# Altium footprint library con-wago255.PCBLIB: 101 footprints (part 4 of 7)
Each footprint in its own frame and in the unit in brackets; x right, y up, seen from the top. Pads: shape width x height; smd on the part's side, far side on the other; paste and mask are expansions set on the pad; w line width, h text height; cw(c..) or ccw(c..) is an arc to the next point about the centre after c.
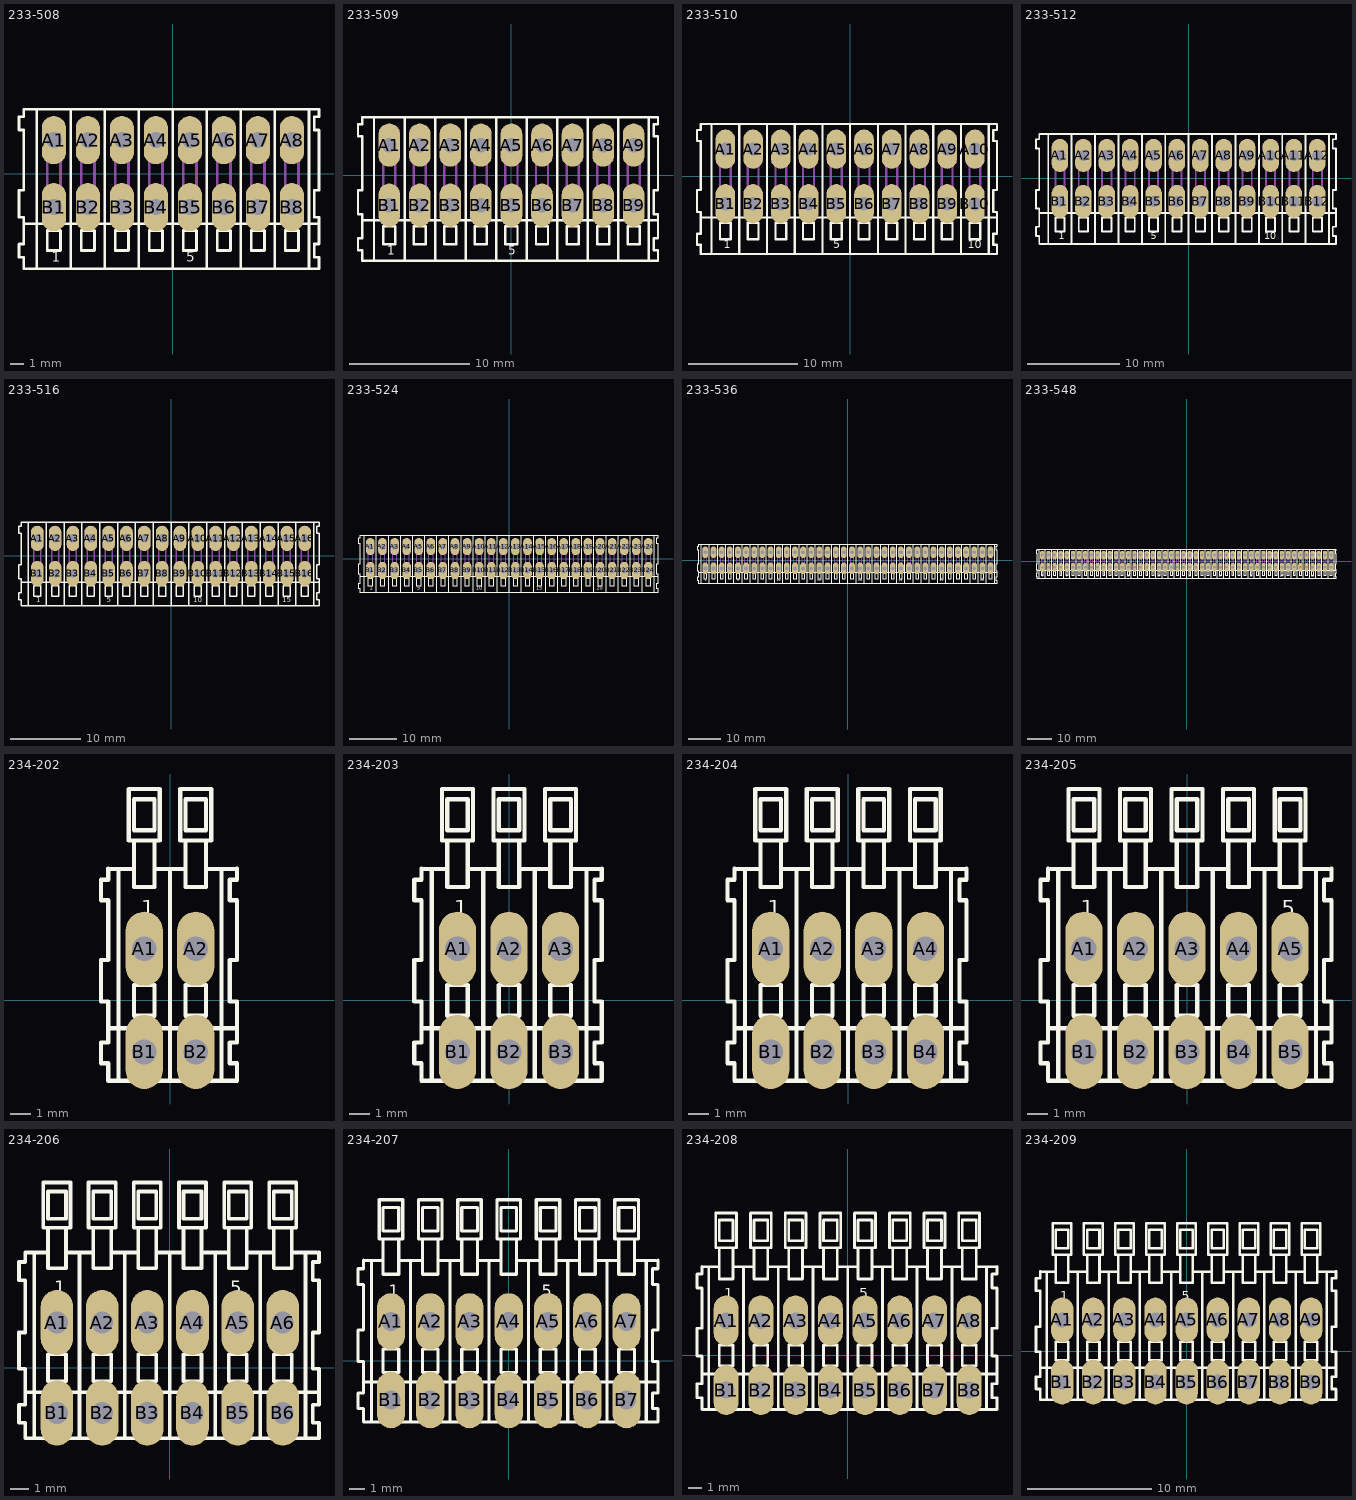
[diagram p3: the footprints below, top view; thin cyan lines are the x and y axes]

## 233-508 [mil]
pads (16):
  oval 70.86x141.72 hole 47.24: A1(-350,98.43) A2(-250,98.43) A3(-150,98.43) A4(-50,98.43) A5(50,98.43) A6(150,98.43) A7(250,98.43) A8(350,98.43) B1(-350,-98.43) B2(-250,-98.43) B3(-150,-98.43) B4(-50,-98.43) B5(50,-98.43) B6(150,-98.43) B7(250,-98.43) B8(350,-98.43)
Top Overlay:
  lines w8: -438.58,-147.64 429.72,-147.64 ; -400,-275 -400,185 ; -300,-275 -300,185 ; -200,-275 -200,185 ; -100,-275 -100,185 ; 0,-275 0,185 ; 100,-275 100,185 ; 200,-275 200,185 ; 300,-275 300,185 ; 400,-275 400,185 ; 429.72,-147.64 429.72,-206.69 415.94,-206.69 415.94,-246.06 429.72,-246.06 429.72,-279.53 -438.58,-279.53 -438.58,-246.06 -452.36,-246.06 -452.36,-206.69 -438.58,-206.69 -438.58,-127.95 -452.36,-127.95 -452.36,-49.21 -438.58,-49.21 -438.58,127.95 -452.36,127.95 -452.36,167.32 -438.58,167.32 -438.58,188.98 429.72,188.98 429.72,167.32 415.94,167.32 415.94,127.95 429.72,127.95 429.72,-49.21 415.94,-49.21 415.94,-127.95 429.72,-127.95 429.72,-147.64 ; -369.69,-226.38 -369.69,-167.32 -330.32,-167.32 -330.32,-226.38 -369.69,-226.38 ; -269.69,-226.38 -269.69,-167.32 -230.32,-167.32 -230.32,-226.38 -269.69,-226.38 ; -169.69,-226.38 -169.69,-167.32 -130.32,-167.32 -130.32,-226.38 -169.69,-226.38 ; -69.69,-226.38 -69.69,-167.32 -30.32,-167.32 -30.32,-226.38 -69.69,-226.38 ; 30.32,-226.38 30.32,-167.32 69.69,-167.32 69.69,-226.38 30.32,-226.38 ; 130.32,-226.38 130.32,-167.32 169.69,-167.32 169.69,-226.38 130.32,-226.38 ; 230.32,-226.38 230.32,-167.32 269.69,-167.32 269.69,-226.38 230.32,-226.38 ; 330.32,-226.38 330.32,-167.32 369.69,-167.32 369.69,-226.38 330.32,-226.38
  text "1" at -355.91,-269.69 h49.6
  text "5" at 39.09,-269.69 h49.6
Mechanical 16:
  lines w8: -369.69,49.21 -379.53,49.21 -379.53,147.64 -320.47,147.64 -320.47,49.21 -330.32,49.21 ; -369.69,49.21 -330.32,49.21 ; -369.69,49.21 -369.69,-39.37 -330.32,-39.37 -330.32,49.21 ; -269.69,49.21 -279.53,49.21 -279.53,147.64 -220.47,147.64 -220.47,49.21 -230.32,49.21 ; -269.69,49.21 -230.32,49.21 ; -269.69,49.21 -269.69,-39.37 -230.32,-39.37 -230.32,49.21 ; -169.69,49.21 -179.53,49.21 -179.53,147.64 -120.47,147.64 -120.47,49.21 -130.32,49.21 ; -169.69,49.21 -130.32,49.21 ; -169.69,49.21 -169.69,-39.37 -130.32,-39.37 -130.32,49.21 ; -69.69,49.21 -79.53,49.21 -79.53,147.64 -20.47,147.64 -20.47,49.21 -30.32,49.21 ; -69.69,49.21 -30.32,49.21 ; -69.69,49.21 -69.69,-39.37 -30.32,-39.37 -30.32,49.21 ; 30.32,49.21 20.47,49.21 20.47,147.64 79.53,147.64 79.53,49.21 69.69,49.21 ; 30.32,49.21 69.69,49.21 ; 30.32,49.21 30.32,-39.37 69.69,-39.37 69.69,49.21 ; 130.32,49.21 120.47,49.21 120.47,147.64 179.53,147.64 179.53,49.21 169.69,49.21 ; 130.32,49.21 169.69,49.21 ; 130.32,49.21 130.32,-39.37 169.69,-39.37 169.69,49.21 ; 230.32,49.21 220.47,49.21 220.47,147.64 279.53,147.64 279.53,49.21 269.69,49.21 ; 230.32,49.21 269.69,49.21 ; 230.32,49.21 230.32,-39.37 269.69,-39.37 269.69,49.21 ; 330.32,49.21 320.47,49.21 320.47,147.64 379.53,147.64 379.53,49.21 369.69,49.21 ; 330.32,49.21 369.69,49.21 ; 330.32,49.21 330.32,-39.37 369.69,-39.37 369.69,49.21 ; -369.69,68.9 -369.69,127.95 -330.32,127.95 -330.32,68.9 -369.69,68.9 ; -269.69,68.9 -269.69,127.95 -230.32,127.95 -230.32,68.9 -269.69,68.9 ; -169.69,68.9 -169.69,127.95 -130.32,127.95 -130.32,68.9 -169.69,68.9 ; -69.69,68.9 -69.69,127.95 -30.32,127.95 -30.32,68.9 -69.69,68.9 ; 30.32,68.9 30.32,127.95 69.69,127.95 69.69,68.9 30.32,68.9 ; 130.32,68.9 130.32,127.95 169.69,127.95 169.69,68.9 130.32,68.9 ; 230.32,68.9 230.32,127.95 269.69,127.95 269.69,68.9 230.32,68.9 ; 330.32,68.9 330.32,127.95 369.69,127.95 369.69,68.9 330.32,68.9

## 233-509 [mil]
pads (18):
  oval 70.86x141.72 hole 47.24: A1(-400,98.43) A2(-300,98.43) A3(-200,98.43) A4(-100,98.43) A5(0,98.43) A6(100,98.43) A7(200,98.43) A8(300,98.43) A9(400,98.43) B1(-400,-98.43) B2(-300,-98.43) B3(-200,-98.43) B4(-100,-98.43) B5(0,-98.43) B6(100,-98.43) B7(200,-98.43) B8(300,-98.43) B9(400,-98.43)
Top Overlay:
  lines w8: -488.58,-147.64 479.72,-147.64 ; -450,-275 -450,185 ; -350,-275 -350,185 ; -250,-275 -250,185 ; -150,-275 -150,185 ; -50,-275 -50,185 ; 50,-275 50,185 ; 150,-275 150,185 ; 250,-275 250,185 ; 350,-275 350,185 ; 450,-275 450,185 ; 479.72,-147.64 479.72,-206.69 465.94,-206.69 465.94,-246.06 479.72,-246.06 479.72,-279.53 -488.58,-279.53 -488.58,-246.06 -502.36,-246.06 -502.36,-206.69 -488.58,-206.69 -488.58,-127.95 -502.36,-127.95 -502.36,-49.21 -488.58,-49.21 -488.58,127.95 -502.36,127.95 -502.36,167.32 -488.58,167.32 -488.58,188.98 479.72,188.98 479.72,167.32 465.94,167.32 465.94,127.95 479.72,127.95 479.72,-49.21 465.94,-49.21 465.94,-127.95 479.72,-127.95 479.72,-147.64 ; -419.69,-226.38 -419.69,-167.32 -380.32,-167.32 -380.32,-226.38 -419.69,-226.38 ; -319.69,-226.38 -319.69,-167.32 -280.32,-167.32 -280.32,-226.38 -319.69,-226.38 ; -219.69,-226.38 -219.69,-167.32 -180.32,-167.32 -180.32,-226.38 -219.69,-226.38 ; -119.69,-226.38 -119.69,-167.32 -80.32,-167.32 -80.32,-226.38 -119.69,-226.38 ; -19.69,-226.38 -19.69,-167.32 19.69,-167.32 19.69,-226.38 -19.69,-226.38 ; 80.32,-226.38 80.32,-167.32 119.69,-167.32 119.69,-226.38 80.32,-226.38 ; 180.32,-226.38 180.32,-167.32 219.69,-167.32 219.69,-226.38 180.32,-226.38 ; 280.32,-226.38 280.32,-167.32 319.69,-167.32 319.69,-226.38 280.32,-226.38 ; 380.32,-226.38 380.32,-167.32 419.69,-167.32 419.69,-226.38 380.32,-226.38
  text "1" at -405.91,-269.69 h49.6
  text "5" at -10.91,-269.69 h49.6
Mechanical 16:
  lines w8: -419.69,49.21 -429.53,49.21 -429.53,147.64 -370.47,147.64 -370.47,49.21 -380.32,49.21 ; -419.69,49.21 -380.32,49.21 ; -419.69,49.21 -419.69,-39.37 -380.32,-39.37 -380.32,49.21 ; -319.69,49.21 -329.53,49.21 -329.53,147.64 -270.47,147.64 -270.47,49.21 -280.32,49.21 ; -319.69,49.21 -280.32,49.21 ; -319.69,49.21 -319.69,-39.37 -280.32,-39.37 -280.32,49.21 ; -219.69,49.21 -229.53,49.21 -229.53,147.64 -170.47,147.64 -170.47,49.21 -180.32,49.21 ; -219.69,49.21 -180.32,49.21 ; -219.69,49.21 -219.69,-39.37 -180.32,-39.37 -180.32,49.21 ; -119.69,49.21 -129.53,49.21 -129.53,147.64 -70.47,147.64 -70.47,49.21 -80.32,49.21 ; -119.69,49.21 -80.32,49.21 ; -119.69,49.21 -119.69,-39.37 -80.32,-39.37 -80.32,49.21 ; -19.69,49.21 -29.53,49.21 -29.53,147.64 29.53,147.64 29.53,49.21 19.69,49.21 ; -19.69,49.21 19.69,49.21 ; -19.69,49.21 -19.69,-39.37 19.69,-39.37 19.69,49.21 ; 80.32,49.21 70.47,49.21 70.47,147.64 129.53,147.64 129.53,49.21 119.69,49.21 ; 80.32,49.21 119.69,49.21 ; 80.32,49.21 80.32,-39.37 119.69,-39.37 119.69,49.21 ; 180.32,49.21 170.47,49.21 170.47,147.64 229.53,147.64 229.53,49.21 219.69,49.21 ; 180.32,49.21 219.69,49.21 ; 180.32,49.21 180.32,-39.37 219.69,-39.37 219.69,49.21 ; 280.32,49.21 270.47,49.21 270.47,147.64 329.53,147.64 329.53,49.21 319.69,49.21 ; 280.32,49.21 319.69,49.21 ; 280.32,49.21 280.32,-39.37 319.69,-39.37 319.69,49.21 ; 380.32,49.21 370.47,49.21 370.47,147.64 429.53,147.64 429.53,49.21 419.69,49.21 ; 380.32,49.21 419.69,49.21 ; 380.32,49.21 380.32,-39.37 419.69,-39.37 419.69,49.21 ; -419.69,68.9 -419.69,127.95 -380.32,127.95 -380.32,68.9 -419.69,68.9 ; -319.69,68.9 -319.69,127.95 -280.32,127.95 -280.32,68.9 -319.69,68.9 ; -219.69,68.9 -219.69,127.95 -180.32,127.95 -180.32,68.9 -219.69,68.9 ; -119.69,68.9 -119.69,127.95 -80.32,127.95 -80.32,68.9 -119.69,68.9 ; -19.69,68.9 -19.69,127.95 19.69,127.95 19.69,68.9 -19.69,68.9 ; 80.32,68.9 80.32,127.95 119.69,127.95 119.69,68.9 80.32,68.9 ; 180.32,68.9 180.32,127.95 219.69,127.95 219.69,68.9 180.32,68.9 ; 280.32,68.9 280.32,127.95 319.69,127.95 319.69,68.9 280.32,68.9 ; 380.32,68.9 380.32,127.95 419.69,127.95 419.69,68.9 380.32,68.9

## 233-510 [mil]
pads (20):
  oval 70.86x141.72 hole 47.24: A1(-450,98.43) A2(-350,98.43) A3(-250,98.43) A4(-150,98.43) A5(-50,98.43) A6(50,98.43) A7(150,98.43) A8(250,98.43) A9(350,98.43) A10(450,98.43) B1(-450,-98.43) B2(-350,-98.43) B3(-250,-98.43) B4(-150,-98.43) B5(-50,-98.43) B6(50,-98.43) B7(150,-98.43) B8(250,-98.43) B9(350,-98.43) B10(450,-98.43)
Top Overlay:
  lines w8: -538.58,-147.64 529.72,-147.64 ; -500,-275 -500,185 ; -400,-275 -400,185 ; -300,-275 -300,185 ; -200,-275 -200,185 ; -100,-275 -100,185 ; 0,-275 0,185 ; 100,-275 100,185 ; 200,-275 200,185 ; 300,-275 300,185 ; 400,-275 400,185 ; 500,-275 500,185 ; 529.72,-147.64 529.72,-206.69 515.94,-206.69 515.94,-246.06 529.72,-246.06 529.72,-279.53 -538.58,-279.53 -538.58,-246.06 -552.36,-246.06 -552.36,-206.69 -538.58,-206.69 -538.58,-127.95 -552.36,-127.95 -552.36,-49.21 -538.58,-49.21 -538.58,127.95 -552.36,127.95 -552.36,167.32 -538.58,167.32 -538.58,188.98 529.72,188.98 529.72,167.32 515.94,167.32 515.94,127.95 529.72,127.95 529.72,-49.21 515.94,-49.21 515.94,-127.95 529.72,-127.95 529.72,-147.64 ; -469.69,-226.38 -469.69,-167.32 -430.32,-167.32 -430.32,-226.38 -469.69,-226.38 ; -369.69,-226.38 -369.69,-167.32 -330.32,-167.32 -330.32,-226.38 -369.69,-226.38 ; -269.69,-226.38 -269.69,-167.32 -230.32,-167.32 -230.32,-226.38 -269.69,-226.38 ; -169.69,-226.38 -169.69,-167.32 -130.32,-167.32 -130.32,-226.38 -169.69,-226.38 ; -69.69,-226.38 -69.69,-167.32 -30.32,-167.32 -30.32,-226.38 -69.69,-226.38 ; 30.32,-226.38 30.32,-167.32 69.69,-167.32 69.69,-226.38 30.32,-226.38 ; 130.32,-226.38 130.32,-167.32 169.69,-167.32 169.69,-226.38 130.32,-226.38 ; 230.32,-226.38 230.32,-167.32 269.69,-167.32 269.69,-226.38 230.32,-226.38 ; 330.32,-226.38 330.32,-167.32 369.69,-167.32 369.69,-226.38 330.32,-226.38 ; 430.32,-226.38 430.32,-167.32 469.69,-167.32 469.69,-226.38 430.32,-226.38
  text "1" at -455.91,-269.69 h49.6
  text "5" at -60.91,-269.69 h49.6
  text "10" at 424.09,-269.69 h49.6
Mechanical 16:
  lines w8: -469.69,49.21 -479.53,49.21 -479.53,147.64 -420.47,147.64 -420.47,49.21 -430.32,49.21 ; -469.69,49.21 -430.32,49.21 ; -469.69,49.21 -469.69,-39.37 -430.32,-39.37 -430.32,49.21 ; -369.69,49.21 -379.53,49.21 -379.53,147.64 -320.47,147.64 -320.47,49.21 -330.32,49.21 ; -369.69,49.21 -330.32,49.21 ; -369.69,49.21 -369.69,-39.37 -330.32,-39.37 -330.32,49.21 ; -269.69,49.21 -279.53,49.21 -279.53,147.64 -220.47,147.64 -220.47,49.21 -230.32,49.21 ; -269.69,49.21 -230.32,49.21 ; -269.69,49.21 -269.69,-39.37 -230.32,-39.37 -230.32,49.21 ; -169.69,49.21 -179.53,49.21 -179.53,147.64 -120.47,147.64 -120.47,49.21 -130.32,49.21 ; -169.69,49.21 -130.32,49.21 ; -169.69,49.21 -169.69,-39.37 -130.32,-39.37 -130.32,49.21 ; -69.69,49.21 -79.53,49.21 -79.53,147.64 -20.47,147.64 -20.47,49.21 -30.32,49.21 ; -69.69,49.21 -30.32,49.21 ; -69.69,49.21 -69.69,-39.37 -30.32,-39.37 -30.32,49.21 ; 30.32,49.21 20.47,49.21 20.47,147.64 79.53,147.64 79.53,49.21 69.69,49.21 ; 30.32,49.21 69.69,49.21 ; 30.32,49.21 30.32,-39.37 69.69,-39.37 69.69,49.21 ; 130.32,49.21 120.47,49.21 120.47,147.64 179.53,147.64 179.53,49.21 169.69,49.21 ; 130.32,49.21 169.69,49.21 ; 130.32,49.21 130.32,-39.37 169.69,-39.37 169.69,49.21 ; 230.32,49.21 220.47,49.21 220.47,147.64 279.53,147.64 279.53,49.21 269.69,49.21 ; 230.32,49.21 269.69,49.21 ; 230.32,49.21 230.32,-39.37 269.69,-39.37 269.69,49.21 ; 330.32,49.21 320.47,49.21 320.47,147.64 379.53,147.64 379.53,49.21 369.69,49.21 ; 330.32,49.21 369.69,49.21 ; 330.32,49.21 330.32,-39.37 369.69,-39.37 369.69,49.21 ; 430.32,49.21 420.47,49.21 420.47,147.64 479.53,147.64 479.53,49.21 469.69,49.21 ; 430.32,49.21 469.69,49.21 ; 430.32,49.21 430.32,-39.37 469.69,-39.37 469.69,49.21 ; -469.69,68.9 -469.69,127.95 -430.32,127.95 -430.32,68.9 -469.69,68.9 ; -369.69,68.9 -369.69,127.95 -330.32,127.95 -330.32,68.9 -369.69,68.9 ; -269.69,68.9 -269.69,127.95 -230.32,127.95 -230.32,68.9 -269.69,68.9 ; -169.69,68.9 -169.69,127.95 -130.32,127.95 -130.32,68.9 -169.69,68.9 ; -69.69,68.9 -69.69,127.95 -30.32,127.95 -30.32,68.9 -69.69,68.9 ; 30.32,68.9 30.32,127.95 69.69,127.95 69.69,68.9 30.32,68.9 ; 130.32,68.9 130.32,127.95 169.69,127.95 169.69,68.9 130.32,68.9 ; 230.32,68.9 230.32,127.95 269.69,127.95 269.69,68.9 230.32,68.9 ; 330.32,68.9 330.32,127.95 369.69,127.95 369.69,68.9 330.32,68.9 ; 430.32,68.9 430.32,127.95 469.69,127.95 469.69,68.9 430.32,68.9

## 233-512 [mil]
pads (24):
  oval 70.86x141.72 hole 47.24: A1(-550,98.43) A2(-450,98.43) A3(-350,98.43) A4(-250,98.43) A5(-150,98.43) A6(-50,98.43) A7(50,98.43) A8(150,98.43) A9(250,98.43) A10(350,98.43) A11(450,98.43) A12(550,98.43) B1(-550,-98.43) B2(-450,-98.43) B3(-350,-98.43) B4(-250,-98.43) B5(-150,-98.43) B6(-50,-98.43) B7(50,-98.43) B8(150,-98.43) B9(250,-98.43) B10(350,-98.43) B11(450,-98.43) B12(550,-98.43)
Top Overlay:
  lines w8: -638.58,-147.64 629.72,-147.64 ; -600,-275 -600,185 ; -500,-275 -500,185 ; -400,-275 -400,185 ; -300,-275 -300,185 ; -200,-275 -200,185 ; -100,-275 -100,185 ; 0,-275 0,185 ; 100,-275 100,185 ; 200,-275 200,185 ; 300,-275 300,185 ; 400,-275 400,185 ; 500,-275 500,185 ; 600,-275 600,185 ; 629.72,-147.64 629.72,-206.69 615.94,-206.69 615.94,-246.06 629.72,-246.06 629.72,-279.53 -638.58,-279.53 -638.58,-246.06 -652.36,-246.06 -652.36,-206.69 -638.58,-206.69 -638.58,-127.95 -652.36,-127.95 -652.36,-49.21 -638.58,-49.21 -638.58,127.95 -652.36,127.95 -652.36,167.32 -638.58,167.32 -638.58,188.98 629.72,188.98 629.72,167.32 615.94,167.32 615.94,127.95 629.72,127.95 629.72,-49.21 615.94,-49.21 615.94,-127.95 629.72,-127.95 629.72,-147.64 ; -569.69,-226.38 -569.69,-167.32 -530.32,-167.32 -530.32,-226.38 -569.69,-226.38 ; -469.69,-226.38 -469.69,-167.32 -430.32,-167.32 -430.32,-226.38 -469.69,-226.38 ; -369.69,-226.38 -369.69,-167.32 -330.32,-167.32 -330.32,-226.38 -369.69,-226.38 ; -269.69,-226.38 -269.69,-167.32 -230.32,-167.32 -230.32,-226.38 -269.69,-226.38 ; -169.69,-226.38 -169.69,-167.32 -130.32,-167.32 -130.32,-226.38 -169.69,-226.38 ; -69.69,-226.38 -69.69,-167.32 -30.32,-167.32 -30.32,-226.38 -69.69,-226.38 ; 30.32,-226.38 30.32,-167.32 69.69,-167.32 69.69,-226.38 30.32,-226.38 ; 130.32,-226.38 130.32,-167.32 169.69,-167.32 169.69,-226.38 130.32,-226.38 ; 230.32,-226.38 230.32,-167.32 269.69,-167.32 269.69,-226.38 230.32,-226.38 ; 330.32,-226.38 330.32,-167.32 369.69,-167.32 369.69,-226.38 330.32,-226.38 ; 430.32,-226.38 430.32,-167.32 469.69,-167.32 469.69,-226.38 430.32,-226.38 ; 530.32,-226.38 530.32,-167.32 569.69,-167.32 569.69,-226.38 530.32,-226.38
  text "1" at -555.91,-269.69 h49.6
  text "5" at -160.91,-269.69 h49.6
  text "10" at 324.09,-269.69 h49.6
Mechanical 16:
  drawing of 156 lines, arcs and shapes, not listed

## 233-516 [mil]
pads (32):
  oval 70.86x141.72 hole 47.24: A1(-750,98.43) A2(-650,98.43) A3(-550,98.43) A4(-450,98.43) A5(-350,98.43) A6(-250,98.43) A7(-150,98.43) A8(-50,98.43) A9(50,98.43) A10(150,98.43) A11(250,98.43) A12(350,98.43) A13(450,98.43) A14(550,98.43) A15(650,98.43) A16(750,98.43) B1(-750,-98.43) B2(-650,-98.43) B3(-550,-98.43) B4(-450,-98.43) B5(-350,-98.43) B6(-250,-98.43) B7(-150,-98.43) B8(-50,-98.43) B9(50,-98.43) B10(150,-98.43) B11(250,-98.43) B12(350,-98.43) B13(450,-98.43) B14(550,-98.43) B15(650,-98.43) B16(750,-98.43)
Top Overlay:
  lines w8: -838.58,-147.64 829.72,-147.64 ; -800,-275 -800,185 ; -700,-275 -700,185 ; -600,-275 -600,185 ; -500,-275 -500,185 ; -400,-275 -400,185 ; -300,-275 -300,185 ; -200,-275 -200,185 ; -100,-275 -100,185 ; 0,-275 0,185 ; 100,-275 100,185 ; 200,-275 200,185 ; 300,-275 300,185 ; 400,-275 400,185 ; 500,-275 500,185 ; 600,-275 600,185 ; 700,-275 700,185 ; 800,-275 800,185 ; 829.72,-147.64 829.72,-206.69 815.94,-206.69 815.94,-246.06 829.72,-246.06 829.72,-279.53 -838.58,-279.53 -838.58,-246.06 -852.36,-246.06 -852.36,-206.69 -838.58,-206.69 -838.58,-127.95 -852.36,-127.95 -852.36,-49.21 -838.58,-49.21 -838.58,127.95 -852.36,127.95 -852.36,167.32 -838.58,167.32 -838.58,188.98 829.72,188.98 829.72,167.32 815.94,167.32 815.94,127.95 829.72,127.95 829.72,-49.21 815.94,-49.21 815.94,-127.95 829.72,-127.95 829.72,-147.64 ; -769.69,-226.38 -769.69,-167.32 -730.32,-167.32 -730.32,-226.38 -769.69,-226.38 ; -669.69,-226.38 -669.69,-167.32 -630.32,-167.32 -630.32,-226.38 -669.69,-226.38 ; -569.69,-226.38 -569.69,-167.32 -530.32,-167.32 -530.32,-226.38 -569.69,-226.38 ; -469.69,-226.38 -469.69,-167.32 -430.32,-167.32 -430.32,-226.38 -469.69,-226.38 ; -369.69,-226.38 -369.69,-167.32 -330.32,-167.32 -330.32,-226.38 -369.69,-226.38 ; -269.69,-226.38 -269.69,-167.32 -230.32,-167.32 -230.32,-226.38 -269.69,-226.38 ; -169.69,-226.38 -169.69,-167.32 -130.32,-167.32 -130.32,-226.38 -169.69,-226.38 ; -69.69,-226.38 -69.69,-167.32 -30.32,-167.32 -30.32,-226.38 -69.69,-226.38 ; 30.32,-226.38 30.32,-167.32 69.69,-167.32 69.69,-226.38 30.32,-226.38 ; 130.32,-226.38 130.32,-167.32 169.69,-167.32 169.69,-226.38 130.32,-226.38 ; 230.32,-226.38 230.32,-167.32 269.69,-167.32 269.69,-226.38 230.32,-226.38 ; 330.32,-226.38 330.32,-167.32 369.69,-167.32 369.69,-226.38 330.32,-226.38 ; 430.32,-226.38 430.32,-167.32 469.69,-167.32 469.69,-226.38 430.32,-226.38 ; 530.32,-226.38 530.32,-167.32 569.69,-167.32 569.69,-226.38 530.32,-226.38 ; 630.32,-226.38 630.32,-167.32 669.69,-167.32 669.69,-226.38 630.32,-226.38 ; 730.32,-226.38 730.32,-167.32 769.69,-167.32 769.69,-226.38 730.32,-226.38
  text "1" at -755.91,-269.69 h49.6
  text "5" at -360.91,-269.69 h49.6
  text "10" at 124.09,-269.69 h49.6
  text "15" at 624.09,-269.69 h49.6
Mechanical 16:
  drawing of 208 lines, arcs and shapes, not listed

## 233-524 [mil]
pads (48):
  oval 70.86x141.72 hole 47.24: A1(-1150,98.43) A2(-1050,98.43) A3(-950,98.43) A4(-850,98.43) A5(-750,98.43) A6(-650,98.43) A7(-550,98.43) A8(-450,98.43) A9(-350,98.43) A10(-250,98.43) A11(-150,98.43) A12(-50,98.43) A13(50,98.43) A14(150,98.43) A15(250,98.43) A16(350,98.43) A17(450,98.43) A18(550,98.43) A19(650,98.43) A20(750,98.43) A21(850,98.43) A22(950,98.43) A23(1050,98.43) A24(1150,98.43) B1(-1150,-98.43) B2(-1050,-98.43) B3(-950,-98.43) B4(-850,-98.43) B5(-750,-98.43) B6(-650,-98.43) B7(-550,-98.43) B8(-450,-98.43) B9(-350,-98.43) B10(-250,-98.43) B11(-150,-98.43) B12(-50,-98.43) B13(50,-98.43) B14(150,-98.43) B15(250,-98.43) B16(350,-98.43) B17(450,-98.43) B18(550,-98.43) B19(650,-98.43) B20(750,-98.43) B21(850,-98.43) B22(950,-98.43) B23(1050,-98.43) B24(1150,-98.43)
Top Overlay:
  drawing of 151 lines, arcs and shapes, not listed
  text "1" at -1155.91,-269.69 h49.6
  text "5" at -760.91,-269.69 h49.6
  text "10" at -275.91,-269.69 h49.6
  text "15" at 224.09,-269.69 h49.6
  text "20" at 724.09,-269.69 h49.6
Mechanical 16:
  drawing of 312 lines, arcs and shapes, not listed

## 233-536 [mil]
pads (72):
  oval 70.86x141.72 hole 47.24: A1(-1750,98.43) A2(-1650,98.43) A3(-1550,98.43) A4(-1450,98.43) A5(-1350,98.43) A6(-1250,98.43) A7(-1150,98.43) A8(-1050,98.43) A9(-950,98.43) A10(-850,98.43) A11(-750,98.43) A12(-650,98.43) A13(-550,98.43) A14(-450,98.43) A15(-350,98.43) A16(-250,98.43) A17(-150,98.43) A18(-50,98.43) A19(50,98.43) A20(150,98.43) A21(250,98.43) A22(350,98.43) A23(450,98.43) A24(550,98.43) A25(650,98.43) A26(750,98.43) A27(850,98.43) A28(950,98.43) A29(1050,98.43) A30(1150,98.43) A31(1250,98.43) A32(1350,98.43) A33(1450,98.43) A34(1550,98.43) A35(1650,98.43) A36(1750,98.43) B1(-1750,-98.43) B2(-1650,-98.43) B3(-1550,-98.43) B4(-1450,-98.43) B5(-1350,-98.43) B6(-1250,-98.43) B7(-1150,-98.43) B8(-1050,-98.43) B9(-950,-98.43) B10(-850,-98.43) B11(-750,-98.43) B12(-650,-98.43) B13(-550,-98.43) B14(-450,-98.43) B15(-350,-98.43) B16(-250,-98.43) B17(-150,-98.43) B18(-50,-98.43) B19(50,-98.43) B20(150,-98.43) B21(250,-98.43) B22(350,-98.43) B23(450,-98.43) B24(550,-98.43) B25(650,-98.43) B26(750,-98.43) B27(850,-98.43) B28(950,-98.43) B29(1050,-98.43) B30(1150,-98.43) B31(1250,-98.43) B32(1350,-98.43) B33(1450,-98.43) B34(1550,-98.43) B35(1650,-98.43) B36(1750,-98.43)
Top Overlay:
  drawing of 211 lines, arcs and shapes, not listed
  text "1" at -1755.91,-269.69 h49.6
  text "5" at -1360.91,-269.69 h49.6
  text "10" at -875.91,-269.69 h49.6
  text "15" at -375.91,-269.69 h49.6
  text "20" at 124.09,-269.69 h49.6
  text "25" at 624.09,-269.69 h49.6
  text "30" at 1124.09,-269.69 h49.6
  text "35" at 1624.09,-269.69 h49.6
Mechanical 16:
  drawing of 468 lines, arcs and shapes, not listed

## 233-548 [mil]
pads (96):
  oval 70.86x141.72 hole 47.24: A1(-2350,98.43) A2(-2250,98.43) A3(-2150,98.43) A4(-2050,98.43) A5(-1950,98.43) A6(-1850,98.43) A7(-1750,98.43) A8(-1650,98.43) A9(-1550,98.43) A10(-1450,98.43) A11(-1350,98.43) A12(-1250,98.43) A13(-1150,98.43) A14(-1050,98.43) A15(-950,98.43) A16(-850,98.43) A17(-750,98.43) A18(-650,98.43) A19(-550,98.43) A20(-450,98.43) A21(-350,98.43) A22(-250,98.43) A23(-150,98.43) A24(-50,98.43) A25(50,98.43) A26(150,98.43) A27(250,98.43) A28(350,98.43) A29(450,98.43) A30(550,98.43) A31(650,98.43) A32(750,98.43) A33(850,98.43) A34(950,98.43) A35(1050,98.43) A36(1150,98.43) A37(1250,98.43) A38(1350,98.43) A39(1450,98.43) A40(1550,98.43) A41(1650,98.43) A42(1750,98.43) A43(1850,98.43) A44(1950,98.43) A45(2050,98.43) A46(2150,98.43) A47(2250,98.43) A48(2350,98.43) B1(-2350,-98.43) B2(-2250,-98.43) B3(-2150,-98.43) B4(-2050,-98.43) B5(-1950,-98.43) B6(-1850,-98.43) B7(-1750,-98.43) B8(-1650,-98.43) B9(-1550,-98.43) B10(-1450,-98.43) B11(-1350,-98.43) B12(-1250,-98.43) B13(-1150,-98.43) B14(-1050,-98.43) B15(-950,-98.43) B16(-850,-98.43) B17(-750,-98.43) B18(-650,-98.43) B19(-550,-98.43) B20(-450,-98.43) B21(-350,-98.43) B22(-250,-98.43) B23(-150,-98.43) B24(-50,-98.43) B25(50,-98.43) B26(150,-98.43) B27(250,-98.43) B28(350,-98.43) B29(450,-98.43) B30(550,-98.43) B31(650,-98.43) B32(750,-98.43) B33(850,-98.43) B34(950,-98.43) B35(1050,-98.43) B36(1150,-98.43) B37(1250,-98.43) B38(1350,-98.43) B39(1450,-98.43) B40(1550,-98.43) B41(1650,-98.43) B42(1750,-98.43) B43(1850,-98.43) B44(1950,-98.43) B45(2050,-98.43) B46(2150,-98.43) B47(2250,-98.43) B48(2350,-98.43)
Top Overlay:
  drawing of 271 lines, arcs and shapes, not listed
  text "1" at -2355.91,-269.69 h49.6
  text "5" at -1960.91,-269.69 h49.6
  text "10" at -1475.91,-269.69 h49.6
  text "15" at -975.91,-269.69 h49.6
  text "20" at -475.91,-269.69 h49.6
  text "25" at 24.09,-269.69 h49.6
  text "30" at 524.09,-269.69 h49.6
  text "35" at 1024.09,-269.69 h49.6
  text "40" at 1524.09,-269.69 h49.6
  text "45" at 2024.09,-269.69 h49.6
Mechanical 16:
  drawing of 624 lines, arcs and shapes, not listed

## 234-202 [mil]
pads (4):
  oval 70.86x141.72 hole 47.24: A1(-49.21,98.43) A2(49.21,98.43) B1(-49.21,-98.43) B2(49.21,-98.43)
Top Overlay:
  lines w8: -118.11,251.97 -118.11,250.98 ; -98.43,-149.61 -98.43,250 ; -73.82,250.98 -118.11,250.98 ; -24.61,250.98 24.61,250.98 ; 0,-149.61 0,250 ; 73.82,250.98 123.03,250.98 ; 98.43,-149.61 98.43,250 ; 127.95,251.97 127.95,230.32 114.17,230.32 114.17,190.94 127.95,190.94 127.95,76.77 114.17,76.77 114.17,-1.97 127.95,-1.97 127.95,-53.15 ; -118.11,-53.15 -118.11,-1.97 -131.89,-1.97 -131.89,76.77 -118.11,76.77 -118.11,190.94 -131.89,190.94 -131.89,230.32 -118.11,230.32 -118.11,250.98 ; -118.11,-53.15 -118.11,-80.71 -131.89,-80.71 -131.89,-120.08 -118.11,-120.08 -118.11,-153.54 127.95,-153.54 127.95,-120.08 114.17,-120.08 114.17,-80.71 127.95,-80.71 127.95,-53.15 ; -118.11,-53.15 127.95,-53.15 ; -68.9,305.12 -78.74,305.12 -78.74,403.54 -19.69,403.54 -19.69,305.12 -29.53,305.12 ; -68.9,305.12 -29.53,305.12 ; -68.9,305.12 -68.9,216.54 -29.53,216.54 -29.53,305.12 ; 29.53,305.12 19.69,305.12 19.69,403.54 78.74,403.54 78.74,305.12 68.9,305.12 ; 29.53,305.12 68.9,305.12 ; 29.53,305.12 29.53,216.54 68.9,216.54 68.9,305.12 ; -68.9,-29.53 -68.9,29.53 -29.53,29.53 -29.53,-29.53 -68.9,-29.53 ; -68.9,324.8 -68.9,383.86 -29.53,383.86 -29.53,324.8 -68.9,324.8 ; 29.53,-29.53 29.53,29.53 68.9,29.53 68.9,-29.53 29.53,-29.53 ; 29.53,324.8 29.53,383.86 68.9,383.86 68.9,324.8 29.53,324.8
  text "1" at -55.12,151.57 h49.6

## 234-203 [mil]
pads (6):
  oval 70.86x141.72 hole 47.24: A1(-98.43,98.43) A2(0,98.43) A3(98.43,98.43) B1(-98.43,-98.43) B2(0,-98.43) B3(98.43,-98.43)
Top Overlay:
  lines w8: -167.32,251.97 -167.32,250.98 ; -147.64,-149.61 -147.64,250 ; -123.03,250.98 -167.32,250.98 ; -73.82,250.98 -24.61,250.98 ; -49.21,-149.61 -49.21,250 ; 24.61,250.98 73.82,250.98 ; 49.21,-149.61 49.21,250 ; 123.03,250.98 172.24,250.98 ; 147.64,-149.61 147.64,250 ; 177.17,251.97 177.17,230.32 163.39,230.32 163.39,190.94 177.17,190.94 177.17,76.77 163.39,76.77 163.39,-1.97 177.17,-1.97 177.17,-53.15 ; -167.32,-53.15 -167.32,-1.97 -181.1,-1.97 -181.1,76.77 -167.32,76.77 -167.32,190.94 -181.1,190.94 -181.1,230.32 -167.32,230.32 -167.32,250.98 ; -167.32,-53.15 -167.32,-80.71 -181.1,-80.71 -181.1,-120.08 -167.32,-120.08 -167.32,-153.54 177.17,-153.54 177.17,-120.08 163.39,-120.08 163.39,-80.71 177.17,-80.71 177.17,-53.15 ; -167.32,-53.15 177.17,-53.15 ; -118.11,305.12 -127.95,305.12 -127.95,403.54 -68.9,403.54 -68.9,305.12 -78.74,305.12 ; -118.11,305.12 -78.74,305.12 ; -118.11,305.12 -118.11,216.54 -78.74,216.54 -78.74,305.12 ; -19.69,305.12 -29.53,305.12 -29.53,403.54 29.53,403.54 29.53,305.12 19.69,305.12 ; -19.69,305.12 19.69,305.12 ; -19.69,305.12 -19.69,216.54 19.69,216.54 19.69,305.12 ; 78.74,305.12 68.9,305.12 68.9,403.54 127.95,403.54 127.95,305.12 118.11,305.12 ; 78.74,305.12 118.11,305.12 ; 78.74,305.12 78.74,216.54 118.11,216.54 118.11,305.12 ; -118.11,-29.53 -118.11,29.53 -78.74,29.53 -78.74,-29.53 -118.11,-29.53 ; -118.11,324.8 -118.11,383.86 -78.74,383.86 -78.74,324.8 -118.11,324.8 ; -19.69,-29.53 -19.69,29.53 19.69,29.53 19.69,-29.53 -19.69,-29.53 ; -19.69,324.8 -19.69,383.86 19.69,383.86 19.69,324.8 -19.69,324.8 ; 78.74,-29.53 78.74,29.53 118.11,29.53 118.11,-29.53 78.74,-29.53 ; 78.74,324.8 78.74,383.86 118.11,383.86 118.11,324.8 78.74,324.8
  text "1" at -104.33,151.57 h49.6

## 234-204 [mil]
pads (8):
  oval 70.86x141.72 hole 47.24: A1(-147.64,98.43) A2(-49.21,98.43) A3(49.21,98.43) A4(147.64,98.43) B1(-147.64,-98.43) B2(-49.21,-98.43) B3(49.21,-98.43) B4(147.64,-98.43)
Top Overlay:
  lines w8: -216.54,251.97 -216.54,250.98 ; -196.85,-149.61 -196.85,250 ; -172.24,250.98 -216.54,250.98 ; -123.03,250.98 -73.82,250.98 ; -98.43,-149.61 -98.43,250 ; -24.61,250.98 24.61,250.98 ; 0,-149.61 0,250 ; 73.82,250.98 123.03,250.98 ; 98.43,-149.61 98.43,250 ; 172.24,250.98 221.46,250.98 ; 196.85,-149.61 196.85,250 ; 226.38,251.97 226.38,230.32 212.6,230.32 212.6,190.94 226.38,190.94 226.38,76.77 212.6,76.77 212.6,-1.97 226.38,-1.97 226.38,-53.15 ; -216.54,-53.15 -216.54,-1.97 -230.32,-1.97 -230.32,76.77 -216.54,76.77 -216.54,190.94 -230.32,190.94 -230.32,230.32 -216.54,230.32 -216.54,250.98 ; -216.54,-53.15 -216.54,-80.71 -230.32,-80.71 -230.32,-120.08 -216.54,-120.08 -216.54,-153.54 226.38,-153.54 226.38,-120.08 212.6,-120.08 212.6,-80.71 226.38,-80.71 226.38,-53.15 ; -216.54,-53.15 226.38,-53.15 ; -167.32,305.12 -177.17,305.12 -177.17,403.54 -118.11,403.54 -118.11,305.12 -127.95,305.12 ; -167.32,305.12 -127.95,305.12 ; -167.32,305.12 -167.32,216.54 -127.95,216.54 -127.95,305.12 ; -68.9,305.12 -78.74,305.12 -78.74,403.54 -19.69,403.54 -19.69,305.12 -29.53,305.12 ; -68.9,305.12 -29.53,305.12 ; -68.9,305.12 -68.9,216.54 -29.53,216.54 -29.53,305.12 ; 29.53,305.12 19.69,305.12 19.69,403.54 78.74,403.54 78.74,305.12 68.9,305.12 ; 29.53,305.12 68.9,305.12 ; 29.53,305.12 29.53,216.54 68.9,216.54 68.9,305.12 ; 127.95,305.12 118.11,305.12 118.11,403.54 177.17,403.54 177.17,305.12 167.32,305.12 ; 127.95,305.12 167.32,305.12 ; 127.95,305.12 127.95,216.54 167.32,216.54 167.32,305.12 ; -167.32,-29.53 -167.32,29.53 -127.95,29.53 -127.95,-29.53 -167.32,-29.53 ; -167.32,324.8 -167.32,383.86 -127.95,383.86 -127.95,324.8 -167.32,324.8 ; -68.9,-29.53 -68.9,29.53 -29.53,29.53 -29.53,-29.53 -68.9,-29.53 ; -68.9,324.8 -68.9,383.86 -29.53,383.86 -29.53,324.8 -68.9,324.8 ; 29.53,-29.53 29.53,29.53 68.9,29.53 68.9,-29.53 29.53,-29.53 ; 29.53,324.8 29.53,383.86 68.9,383.86 68.9,324.8 29.53,324.8 ; 127.95,-29.53 127.95,29.53 167.32,29.53 167.32,-29.53 127.95,-29.53 ; 127.95,324.8 127.95,383.86 167.32,383.86 167.32,324.8 127.95,324.8
  text "1" at -153.54,151.57 h49.6

## 234-205 [mm]
pads (10):
  oval 1.8x3.6 hole 1.2: A1(-5,2.5) A2(-2.5,2.5) A3(0,2.5) A4(2.5,2.5) A5(5,2.5) B1(-5,-2.5) B2(-2.5,-2.5) B3(0,-2.5) B4(2.5,-2.5) B5(5,-2.5)
Top Overlay:
  lines w0.203: -6.75,6.4 -6.75,6.375 ; -6.25,-3.8 -6.25,6.35 ; -5.625,6.375 -6.75,6.375 ; -4.375,6.375 -3.125,6.375 ; -3.75,-3.8 -3.75,6.35 ; -1.875,6.375 -0.625,6.375 ; -1.25,-3.8 -1.25,6.35 ; 0.625,6.375 1.875,6.375 ; 1.25,-3.8 1.25,6.35 ; 3.125,6.375 4.375,6.375 ; 3.75,-3.8 3.75,6.35 ; 5.625,6.375 6.875,6.375 ; 6.25,-3.8 6.25,6.35 ; 7,6.4 7,5.85 6.65,5.85 6.65,4.85 7,4.85 7,1.95 6.65,1.95 6.65,-0.05 7,-0.05 7,-1.35 ; -6.75,-1.35 -6.75,-0.05 -7.1,-0.05 -7.1,1.95 -6.75,1.95 -6.75,4.85 -7.1,4.85 -7.1,5.85 -6.75,5.85 -6.75,6.375 ; -6.75,-1.35 -6.75,-2.05 -7.1,-2.05 -7.1,-3.05 -6.75,-3.05 -6.75,-3.9 7,-3.9 7,-3.05 6.65,-3.05 6.65,-2.05 7,-2.05 7,-1.35 ; -6.75,-1.35 7,-1.35 ; -5.5,7.75 -5.75,7.75 -5.75,10.25 -4.25,10.25 -4.25,7.75 -4.5,7.75 ; -5.5,7.75 -4.5,7.75 ; -5.5,7.75 -5.5,5.5 -4.5,5.5 -4.5,7.75 ; -3,7.75 -3.25,7.75 -3.25,10.25 -1.75,10.25 -1.75,7.75 -2,7.75 ; -3,7.75 -2,7.75 ; -3,7.75 -3,5.5 -2,5.5 -2,7.75 ; -0.5,7.75 -0.75,7.75 -0.75,10.25 0.75,10.25 0.75,7.75 0.5,7.75 ; -0.5,7.75 0.5,7.75 ; -0.5,7.75 -0.5,5.5 0.5,5.5 0.5,7.75 ; 2,7.75 1.75,7.75 1.75,10.25 3.25,10.25 3.25,7.75 3,7.75 ; 2,7.75 3,7.75 ; 2,7.75 2,5.5 3,5.5 3,7.75 ; 4.5,7.75 4.25,7.75 4.25,10.25 5.75,10.25 5.75,7.75 5.5,7.75 ; 4.5,7.75 5.5,7.75 ; 4.5,7.75 4.5,5.5 5.5,5.5 5.5,7.75 ; -5.5,-0.75 -5.5,0.75 -4.5,0.75 -4.5,-0.75 -5.5,-0.75 ; -5.5,8.25 -5.5,9.75 -4.5,9.75 -4.5,8.25 -5.5,8.25 ; -3,-0.75 -3,0.75 -2,0.75 -2,-0.75 -3,-0.75 ; -3,8.25 -3,9.75 -2,9.75 -2,8.25 -3,8.25 ; -0.5,-0.75 -0.5,0.75 0.5,0.75 0.5,-0.75 -0.5,-0.75 ; -0.5,8.25 -0.5,9.75 0.5,9.75 0.5,8.25 -0.5,8.25 ; 2,-0.75 2,0.75 3,0.75 3,-0.75 2,-0.75 ; 2,8.25 2,9.75 3,9.75 3,8.25 2,8.25 ; 4.5,-0.75 4.5,0.75 5.5,0.75 5.5,-0.75 4.5,-0.75 ; 4.5,8.25 4.5,9.75 5.5,9.75 5.5,8.25 4.5,8.25
  text "1" at -5.15,3.85 h1.26
  text "5" at 4.6,3.85 h1.26

## 234-206 [mil]
pads (12):
  oval 70.86x141.72 hole 47.24: A1(-246.06,98.43) A2(-147.64,98.43) A3(-49.21,98.43) A4(49.21,98.43) A5(147.64,98.43) A6(246.06,98.43) B1(-246.06,-98.43) B2(-147.64,-98.43) B3(-49.21,-98.43) B4(49.21,-98.43) B5(147.64,-98.43) B6(246.06,-98.43)
Top Overlay:
  lines w8: -314.96,251.97 -314.96,250.98 ; -295.28,-149.61 -295.28,250 ; -270.67,250.98 -314.96,250.98 ; -221.46,250.98 -172.24,250.98 ; -196.85,-149.61 -196.85,250 ; -123.03,250.98 -73.82,250.98 ; -98.43,-149.61 -98.43,250 ; -24.61,250.98 24.61,250.98 ; 0,-149.61 0,250 ; 73.82,250.98 123.03,250.98 ; 98.43,-149.61 98.43,250 ; 172.24,250.98 221.46,250.98 ; 196.85,-149.61 196.85,250 ; 270.67,250.98 319.88,250.98 ; 295.28,-149.61 295.28,250 ; 324.8,251.97 324.8,230.32 311.02,230.32 311.02,190.94 324.8,190.94 324.8,76.77 311.02,76.77 311.02,-1.97 324.8,-1.97 324.8,-53.15 ; -314.96,-53.15 -314.96,-1.97 -328.74,-1.97 -328.74,76.77 -314.96,76.77 -314.96,190.94 -328.74,190.94 -328.74,230.32 -314.96,230.32 -314.96,250.98 ; -314.96,-53.15 -314.96,-80.71 -328.74,-80.71 -328.74,-120.08 -314.96,-120.08 -314.96,-153.54 324.8,-153.54 324.8,-120.08 311.02,-120.08 311.02,-80.71 324.8,-80.71 324.8,-53.15 ; -314.96,-53.15 324.8,-53.15 ; -265.75,305.12 -275.59,305.12 -275.59,403.54 -216.54,403.54 -216.54,305.12 -226.38,305.12 ; -265.75,305.12 -226.38,305.12 ; -265.75,305.12 -265.75,216.54 -226.38,216.54 -226.38,305.12 ; -167.32,305.12 -177.17,305.12 -177.17,403.54 -118.11,403.54 -118.11,305.12 -127.95,305.12 ; -167.32,305.12 -127.95,305.12 ; -167.32,305.12 -167.32,216.54 -127.95,216.54 -127.95,305.12 ; -68.9,305.12 -78.74,305.12 -78.74,403.54 -19.69,403.54 -19.69,305.12 -29.53,305.12 ; -68.9,305.12 -29.53,305.12 ; -68.9,305.12 -68.9,216.54 -29.53,216.54 -29.53,305.12 ; 29.53,305.12 19.69,305.12 19.69,403.54 78.74,403.54 78.74,305.12 68.9,305.12 ; 29.53,305.12 68.9,305.12 ; 29.53,305.12 29.53,216.54 68.9,216.54 68.9,305.12 ; 127.95,305.12 118.11,305.12 118.11,403.54 177.17,403.54 177.17,305.12 167.32,305.12 ; 127.95,305.12 167.32,305.12 ; 127.95,305.12 127.95,216.54 167.32,216.54 167.32,305.12 ; 226.38,305.12 216.54,305.12 216.54,403.54 275.59,403.54 275.59,305.12 265.75,305.12 ; 226.38,305.12 265.75,305.12 ; 226.38,305.12 226.38,216.54 265.75,216.54 265.75,305.12 ; -265.75,-29.53 -265.75,29.53 -226.38,29.53 -226.38,-29.53 -265.75,-29.53 ; -265.75,324.8 -265.75,383.86 -226.38,383.86 -226.38,324.8 -265.75,324.8 ; -167.32,-29.53 -167.32,29.53 -127.95,29.53 -127.95,-29.53 -167.32,-29.53 ; -167.32,324.8 -167.32,383.86 -127.95,383.86 -127.95,324.8 -167.32,324.8 ; -68.9,-29.53 -68.9,29.53 -29.53,29.53 -29.53,-29.53 -68.9,-29.53 ; -68.9,324.8 -68.9,383.86 -29.53,383.86 -29.53,324.8 -68.9,324.8 ; 29.53,-29.53 29.53,29.53 68.9,29.53 68.9,-29.53 29.53,-29.53 ; 29.53,324.8 29.53,383.86 68.9,383.86 68.9,324.8 29.53,324.8 ; 127.95,-29.53 127.95,29.53 167.32,29.53 167.32,-29.53 127.95,-29.53 ; 127.95,324.8 127.95,383.86 167.32,383.86 167.32,324.8 127.95,324.8 ; 226.38,-29.53 226.38,29.53 265.75,29.53 265.75,-29.53 226.38,-29.53 ; 226.38,324.8 226.38,383.86 265.75,383.86 265.75,324.8 226.38,324.8
  text "1" at -251.97,151.57 h49.6
  text "5" at 131.89,151.57 h49.6

## 234-207 [mm]
pads (14):
  oval 1.8x3.6 hole 1.2: A1(-7.5,2.5) A2(-5,2.5) A3(-2.5,2.5) A4(0,2.5) A5(2.5,2.5) A6(5,2.5) A7(7.5,2.5) B1(-7.5,-2.5) B2(-5,-2.5) B3(-2.5,-2.5) B4(0,-2.5) B5(2.5,-2.5) B6(5,-2.5) B7(7.5,-2.5)
Top Overlay:
  drawing of 166 lines, arcs and shapes, not listed
  text "1" at -7.65,3.85 h1.26
  text "5" at 2.1,3.85 h1.26

## 234-208 [mil]
pads (16):
  oval 70.86x141.72 hole 47.24: A1(-344.49,98.43) A2(-246.06,98.43) A3(-147.64,98.43) A4(-49.21,98.43) A5(49.21,98.43) A6(147.64,98.43) A7(246.06,98.43) A8(344.49,98.43) B1(-344.49,-98.43) B2(-246.06,-98.43) B3(-147.64,-98.43) B4(-49.21,-98.43) B5(49.21,-98.43) B6(147.64,-98.43) B7(246.06,-98.43) B8(344.49,-98.43)
Top Overlay:
  drawing of 185 lines, arcs and shapes, not listed
  text "1" at -350.39,151.57 h49.6
  text "5" at 33.46,151.57 h49.6

## 234-209 [mm]
pads (18):
  oval 1.8x3.6 hole 1.2: A1(-10,2.5) A2(-7.5,2.5) A3(-5,2.5) A4(-2.5,2.5) A5(0,2.5) A6(2.5,2.5) A7(5,2.5) A8(7.5,2.5) A9(10,2.5) B1(-10,-2.5) B2(-7.5,-2.5) B3(-5,-2.5) B4(-2.5,-2.5) B5(0,-2.5) B6(2.5,-2.5) B7(5,-2.5) B8(7.5,-2.5) B9(10,-2.5)
Top Overlay:
  drawing of 204 lines, arcs and shapes, not listed
  text "1" at -10.15,3.85 h1.26
  text "5" at -0.4,3.85 h1.26